# Altium schematic symbol library конденсаторы.SchLib: 46 symbols
Pins are listed as number, name and electrical type; pins without a type are passive.

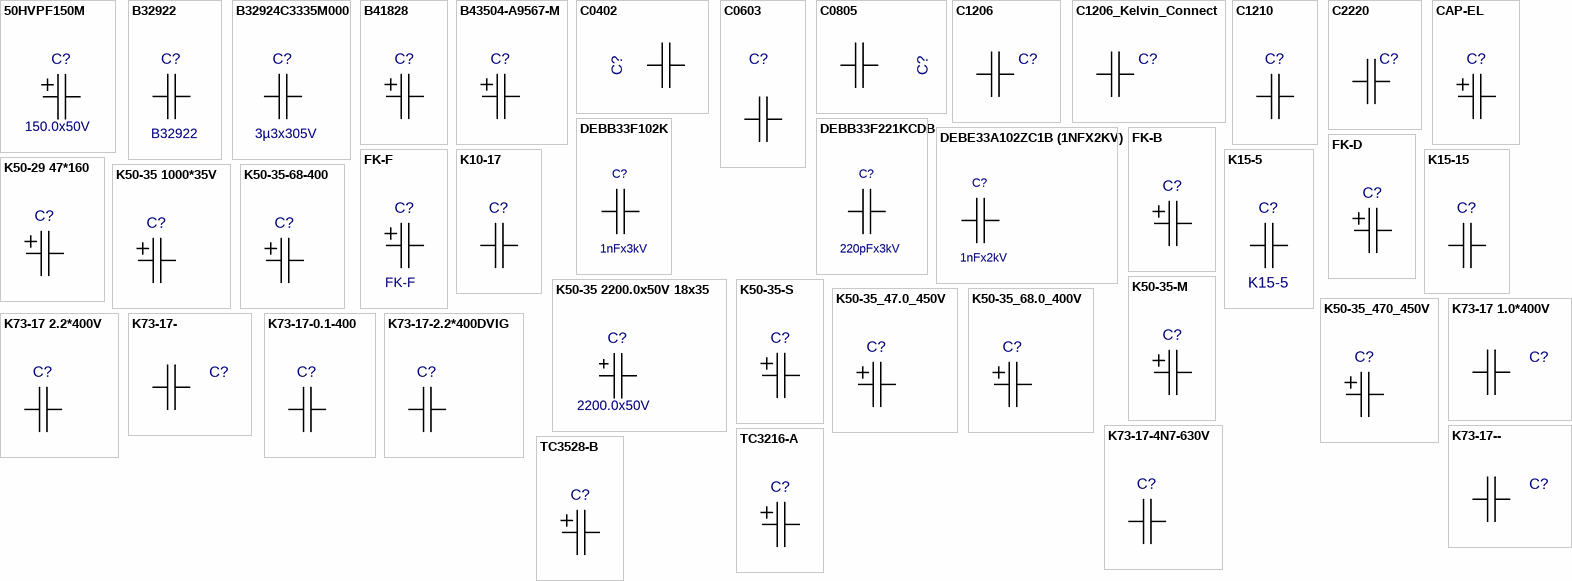
[diagram p0: symbols 50HVPF150M to TC3528-B]

## 50HVPF150M
designator C?, comment 150.0x50V
50HVPF150M; Value: 150.0x50V
footprint 50HVPF150M (Aluminum Electrolytic Capacitor, Body 10,30x12,80mm)
pins: 1, 2

## B32922
designator C?
Value: B32922
footprint B32922
pins: 1, 2

## B32924C3335M000
designator C?  value 3µ3x305V  (hidden comment: B32924C3335M000)
footprint B32924C3335M000 (3µ3x50V L31.5 W18 h27.5 e27.5)
pins: 1, 2

## B41828
designator C?  (value not drawn)
Value: B41828
footprint B41828
pins: 1, 2

## B43504-A9567-M
designator C?  (value not drawn)
Value: B43504-A9567-M
footprint B43504-A9567-M
pins: 1, 2

## C0402
designator C?  (value not drawn)
Value: C0402
footprint 0402_CAP (Конденсатор 0402(1005))
pins: 1, 2

## C0603
designator C?  (value not drawn)
Value: C0603
footprint 0603_CAP (Конденсатор 0603(1608))
pins: 1, 2

## C0805
designator C?  (value not drawn)
Value: C0805
footprint 0805_CAP (Конденсатор 0805(2012))
pins: 1, 2

## C1206
designator C?  (value not drawn)
Value: C1206
footprint 1206_CAP (Конденсатор 1206(3216))
pins: 1, 2

## C1206_Kelvin_Connect
designator C?, comment C1206  (value not drawn)
Value: C1206
footprint 1206_CAP_Kelvin_Connect (Конденсатор 1206(3216))
pins: 1, 2

## C1210
designator C?  (value not drawn)
Value: C1210
footprint C1210 (CAPM3225X25M, Molded Capacitor, 2-Leads, Body 3,20x2,50mm, IPC Low Density)
pins: 1, 2

## C2220
designator C?  (value not drawn)
Value: C2220
footprint C2220
pins: 1, 2

## CAP-EL
designator C?  (value not drawn)
Value: CAP-EL
footprint CAP-EL
pins: 1, 2

## DEBB33F102K
designator C?, comment 1nFx3kV
DEBB33F221KCDB; Value: 1nFx3kV
footprint DEBB33F221KCDB (220x3kV Меж. выв. 7.5, толщина 6, диам. диска 5)
pins: 1, 2

## DEBB33F221KCDB
designator C?, comment 220pFx3kV
DEBB33F221KCDB; Value: 220pFx3kV
footprint DEBB33F221KCDB (220x3kV Меж. выв. 7.5, толщина 6, диам. диска 5)
pins: 1, 2

## DEBE33A102ZC1B (1NFX2KV)
designator C?, comment 1nFx2kV
DEBE33A102ZC1B; Value: 1nFx2kV
footprint DEBE33A102ZC1B (1NFX2KV)
pins: 1, 2

## FK-B
designator C?  (value not drawn)
Value: FK-B; Part Number: FK-B
footprint FK-B
pins: 1, 2

## FK-D
designator C?  (value not drawn)
Value: FK-D
footprint FK-D
pins: 1, 2

## FK-F
designator C?
Value: FK-F
footprint FK-F
pins: 1, 2

## K10-17
designator C?  (value not drawn)
Value: K10-17
footprint CAP200
pins: 1, 2

## K15-5
designator C?
Value: K15-5
footprint K15-5
pins: 1, 2

## K15-15
designator C?  (value not drawn)
Value: K15-15
footprint K15-15
pins: 1, 2

## K50-29 47*160
designator C?  (value not drawn)
Value: K50-29 47*160
footprint K50-29 47*160
pins: 1, 2

## K50-35 1000*35V
designator C?  (value not drawn)
Value: K50-35 1000*35V
footprint 1000*35
pins: 1, 2

## K50-35 2200.0x50V 18x35
designator C?, comment value 2200.0x50V  (hidden comment: B41851A6228M000)
footprint K50-35 D18 I37 b1.0 (D корпуса 18мм, Высота 35+2мм, D выводов 1.0мм)
pins: 1 Plus, 2 Minus

## K50-35-68-400
designator C?  (value not drawn)
Value: K50-35-68-400
footprint K50-35-68-400
pins: 1, 2

## K50-35-M
designator C?  (value not drawn)
Value: K50-35-M
footprint CAP200RP
pins: MINUS 2, PLUS 1

## K50-35-S
designator C?  (value not drawn)
Value: K50-35-S
footprint CAP100RP
pins: MINUS 2, PLUS 1

## K50-35_47.0_450V
designator C?  (value not drawn)
Value: K50-35_47.0_450V
footprint K50-35_47.0_450V
pins: 1, 2

## K50-35_68.0_400V
designator C?  (value not drawn)
Value: K50-35_68.0_400V
footprint K50-35_68.0_400V
pins: MINUS, PLUS

## K50-35_470_450V
designator C?  (value not drawn)
Value: K50-35_470_450V
footprint K50-35_470_450V
pins: MINUS 2, PLUS 1

## K73-17 1.0*400V
designator C?  (value not drawn)
K73-17; Value: K73-17 1.0*400V
footprint K73-17
pins: 1, 2

## K73-17 2.2*400V
designator C?  (value not drawn)
K73-17; Value: K73-17 2.2*400V
footprint K73-17 2.2*400V
pins: 1, 2

## K73-17-
designator C?  (value not drawn)
K73-17; Value: K73-17-
footprint K73-17-
pins: 1, 2

## K73-17-0.1-400
designator C?  (value not drawn)
K73-17; Value: K73-17-0.1-400
footprint K73-17-0.1-400
pins: 1, 2

## K73-17-2.2*400DVIG
designator C?  (value not drawn)
K73-17; Value: K73-17-2.2*400DVIG
footprint K73-17-2.2*400DVIG
pins: 1, 2

## K73-17-4N7-630V
designator C?  (value not drawn)
K73-17; Value: K73-17-4N7-630V
footprint K73-17-4N7-630V
pins: 1, 2

## K73-17--
designator C?  (value not drawn)
K73-17; Value: K73-17--
footprint K73-17--
pins: 1, 2

## TC3216-A
designator C?  (value not drawn)
Value: TC3216-A
footprint TC3216-A
pins: 1, 2

## TC3528-B
designator C?  (value not drawn)
Value: TC3528-B
footprint TC3528-B
pins: 1, 2

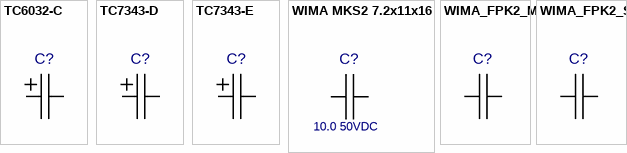
[diagram p1: symbols TC6032-C to WIMA_FPK2_S]

## TC6032-C
designator C?  (value not drawn)
Value: TC6032-C
footprint TC6032-C
pins: 1, 2

## TC7343-D
designator C?  (value not drawn)
Value: TC7343-D
footprint TC7343-D
pins: 1, 2

## TC7343-E
designator C?  (value not drawn)
Value: TC7343-E
footprint TC7343
pins: 1, 2

## WIMA MKS2 7.2x11x16
designator C?, comment 10.0 50VDC
WIMA MKS2 / Metallized Polyester (PET) Capacitors in PCM 5 mm. / Capacitances from 0.01 mF to 10 mF. Rated Voltages from 50 VDC to 630 VDC; Part Number: MKS2B051001N00KSSD; Value: 10.0 50VDC
footprint WIMA MKS2 7.2x11x16 (MKS2B051001N00KSSD L=7.2 W=11 H=16)
pins: 1, 2

## WIMA_FPK2_M
designator C?  (value not drawn)
WIMA FPK2; Value: WIMA_FPK2_M
footprint WIMA_FPK_2_
pins: 1, 2

## WIMA_FPK2_S
designator C?  (value not drawn)
WIMA FPK2; Value: WIMA_FPK2_S
footprint WIMA_FPK_2
pins: 1, 2